# Altium schematic symbol library 48037-2200.SchLib: 1 symbol
Pins are listed as number, name and electrical type; pins without a type are passive.

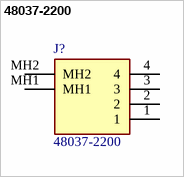
[diagram p0: symbol 48037-2200]

## 48037-2200
designator J?
Universal Serial Bus (USB) Shielded I/O Plug, Type A, Right-Angle, Surface Mount, Straight Tab 3.80mm, 0.76m Gold (Au) Plating, PCB Thickness 1.60mm, Tape on Reel Package, Lead-Free; Manufacturer_Name: Molex; Geometry.Height: 4.6mm; Mouser Part Number: 538-48037-2200; Mouser Price/Stock: https://www.mouser.co.uk/ProductDetail/Molex/48037-2200?qs=naUSJSqnqcIBwHMiwQ2VeA%3D%3D; Manufacturer_Part_Number: 48037-2200; Datasheet Link: https://tools.molex.com/pdm_docs/sd/480372200_sd.pdf
footprint 480372200
pins: 1, 2, 3, 4, MH1, MH2